# Altium footprint library WIZNET.PcbLib: 1 footprints
Each footprint in its own frame and in the unit in brackets; x right, y up, seen from the top. Pads: shape width x height; smd on the part's side, far side on the other; paste and mask are expansions set on the pad; w line width, h text height; cw(c..) or ccw(c..) is an arc to the next point about the centre after c.
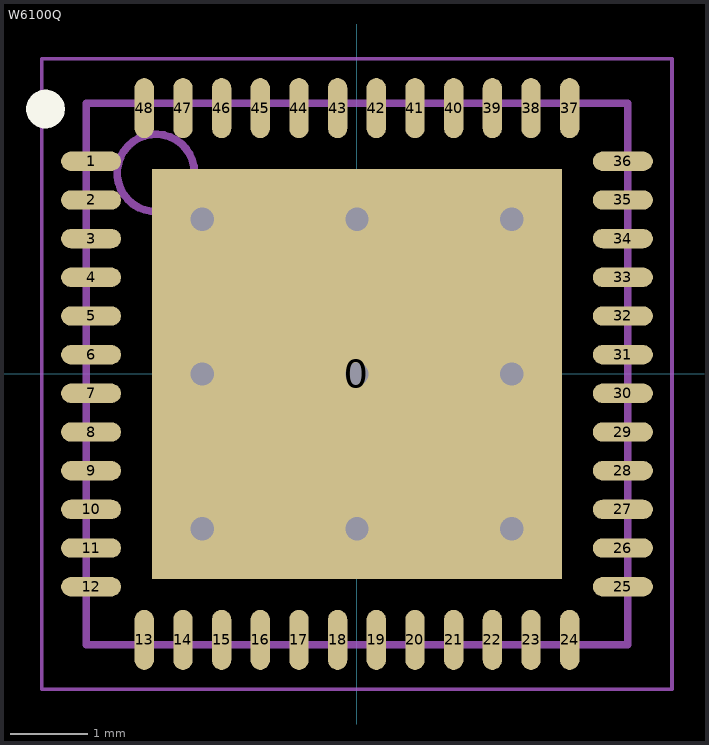
[diagram p0: the footprint, top view; thin cyan lines are the x and y axes]

## W6100Q [mm] "QFN, 48-Leads, Body 7.00x7.00mm, Pitch 0.50mm, Thermal Pad 5.30x5.30mm, IPC Medium Density"
height 0.8
pads (49):
  rect 5.3x5.3 smd paste-2.65: 0(0,0)
  oval 0.775x0.25 smd: 1(-3.437,2.75) 2(-3.437,2.25) 3(-3.437,1.75) 4(-3.437,1.25) 5(-3.437,0.75) 6(-3.437,0.25) 7(-3.437,-0.25) 8(-3.437,-0.75) 9(-3.437,-1.25) 10(-3.437,-1.75) 11(-3.437,-2.25) 12(-3.437,-2.75) 25(3.438,-2.75) 26(3.438,-2.25) 27(3.438,-1.75) 28(3.438,-1.25) 29(3.438,-0.75) 30(3.438,-0.25) 31(3.438,0.25) 32(3.438,0.75) 33(3.438,1.25) 34(3.438,1.75) 35(3.438,2.25) 36(3.438,2.75)
  oval 0.25x0.775 smd: 13(-2.75,-3.438) 14(-2.25,-3.438) 15(-1.75,-3.438) 16(-1.25,-3.438) 17(-0.75,-3.438) 18(-0.25,-3.438) 19(0.25,-3.438) 20(0.75,-3.438) 21(1.25,-3.438) 22(1.75,-3.438) 23(2.25,-3.438) 24(2.75,-3.438) 37(2.75,3.437) 38(2.25,3.437) 39(1.75,3.437) 40(1.25,3.437) 41(0.75,3.437) 42(0.25,3.437) 43(-0.25,3.437) 44(-0.75,3.437) 45(-1.25,3.437) 46(-1.75,3.437) 47(-2.25,3.437) 48(-2.75,3.437)
via 2,0 diameter 0.8 hole 0.3
via 0,0 diameter 0.8 hole 0.3
via -2,0 diameter 0.8 hole 0.3
via 0,-2 diameter 0.8 hole 0.3
via 0,2 diameter 0.8 hole 0.3
via 2,-2 diameter 0.8 hole 0.3
via -2,-2 diameter 0.8 hole 0.3
via -2,2 diameter 0.8 hole 0.3
via 2,2 diameter 0.8 hole 0.3
Top Overlay:
  circle w0.25: c-4.027,3.425 r0.125
Top Paste:
  rectangle: 0.325,-2.001 2.001,-0.325
  rectangle: 0.325,0.325 2.001,2.001
  rectangle: -2.001,-2.001 -0.325,-0.325
  rectangle: -2.001,0.325 -0.325,2.001
Top Assembly:
  circle w0.1: c-2.6,2.6 r0.5
  lines w0.1: -3.5,-3.5 3.5,-3.5 3.5,3.5 -3.5,3.5 -3.5,-3.5
Top Designator:
  text ".Designator" at 0,0.188 h1
Top Courtyard:
  lines w0.05: -4.075,-4.075 4.075,-4.075 4.075,4.075 -4.075,4.075 -4.075,-4.075
Top Component Center:
  lines w0.1: -0.5,0 0.5,0 ; 0,-0.5 0,0.5
3D body: height 0.8, standoff 0.05, extent -3.5,-3.5 3.5,3.5